# EAGLE library part LTC3559 (library xnemo)
LTC3559 USB LiPo charger with dual buck switching regulators
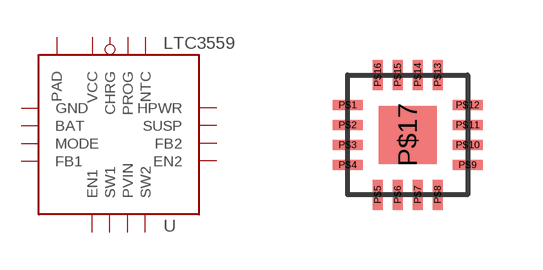
[diagram p6: symbol with the pads of LT_QFN16_3X3; footprint LT_QFN16_3X3]

Designator prefix U

## LTC3559  [LT_QFN16_3X3]
P$1  GND
P$2  BAT
P$3  MODE
P$4  FB1
P$5  EN1
P$6  SW1
P$7  PVIN
P$8  SW2
P$9  EN2
P$10  FB2
P$11  SUSP
P$12  HPWR
P$13  NTC
P$14  PROG
P$15  CHRG
P$16  VCC
P$17  PAD

## Footprint LT_QFN16_3X3 (pad centres in mm)
smd 0.75 x 0.25: P$1 -1.5,0.75; P$2 -1.5,0.25; P$3 -1.5,-0.25; P$4 -1.5,-0.75; P$9 1.5,-0.75; P$10 1.5,-0.25; P$11 1.5,0.25; P$12 1.5,0.75
smd 0.25 x 0.75: P$5 -0.75,-1.5; P$6 -0.25,-1.5; P$7 0.25,-1.5; P$8 0.75,-1.5; P$13 0.75,1.5; P$14 0.25,1.5; P$15 -0.25,1.5; P$16 -0.75,1.5
smd 1.45 x 1.45: P$17 0,0